# EAGLE library part 74AC11244DB (library xess)
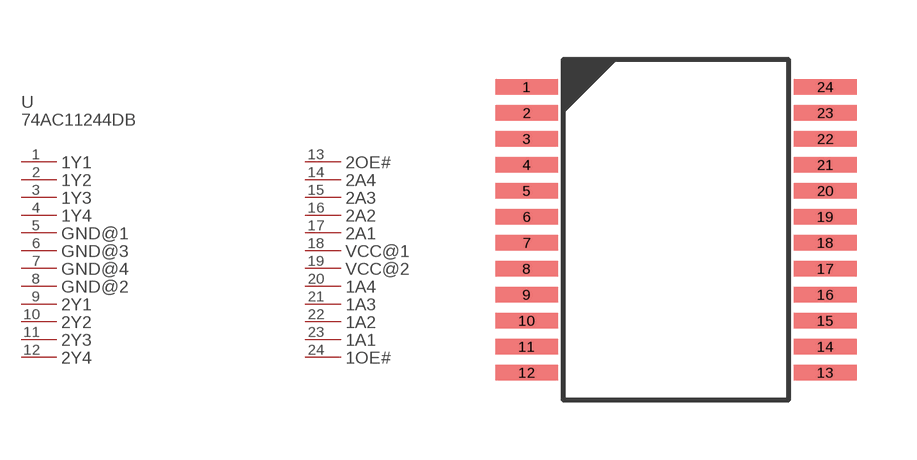
[diagram p109: symbol with the pads of 74AC11244DB; footprint 74AC11244DB]

Designator prefix U; gates PART_VALUE=PART_VALUE-74AC11244DB 1Y1=PL-74AC11244DB 1Y2=PL-74AC11244DB 1Y3=PL-74AC11244DB 1Y4=PL-74AC11244DB GND@1=PL-74AC11244DB GND@3=PL-74AC11244DB GND@4=PL-74AC11244DB GND@2=PL-74AC11244DB 2Y1=PL-74AC11244DB 2Y2=PL-74AC11244DB 2Y3=PL-74AC11244DB 2Y4=PL-74AC11244DB 2OE#=PL-74AC11244DB 2A4=PL-74AC11244DB 2A3=PL-74AC11244DB 2A2=PL-74AC11244DB 2A1=PL-74AC11244DB VCC@1=PL-74AC11244DB VCC@2=PL-74AC11244DB 1A4=PL-74AC11244DB 1A3=PL-74AC11244DB 1A2=PL-74AC11244DB 1A1=PL-74AC11244DB 1OE#=PL-74AC11244DB

## 74AC11244DB  [74AC11244DB]
1  1Y1:P$1
2  1Y2:P$1
3  1Y3:P$1
4  1Y4:P$1
5  GND@1:P$1
6  GND@3:P$1
7  GND@4:P$1
8  GND@2:P$1
9  2Y1:P$1
10  2Y2:P$1
11  2Y3:P$1
12  2Y4:P$1
13  2OE#:P$1
14  2A4:P$1
15  2A3:P$1
16  2A2:P$1
17  2A1:P$1
18  VCC@1:P$1
19  VCC@2:P$1
20  1A4:P$1
21  1A3:P$1
22  1A2:P$1
23  1A1:P$1
24  1OE#:P$1

## Footprint 74AC11244DB (pad centres in mm)
smd 1.57 x 0.38: 1 -0.11,0; 2 -0.11,-0.65; 3 -0.11,-1.3; 4 -0.11,-1.95; 5 -0.11,-2.6; 6 -0.11,-3.25; 7 -0.11,-3.9; 8 -0.11,-4.55; 9 -0.11,-5.2; 10 -0.11,-5.85; 11 -0.11,-6.5; 12 -0.11,-7.15; 13 7.36,-7.15; 14 7.36,-6.5; 15 7.36,-5.85; 16 7.36,-5.2; 17 7.36,-4.55; 18 7.36,-3.9; 19 7.36,-3.25; 20 7.36,-2.6; 21 7.36,-1.95; 22 7.36,-1.3; 23 7.36,-0.65; 24 7.36,0